# Altium footprint library TLC2262_SOIC8.PcbLib: 2 footprints
Each footprint in its own frame and in the unit in brackets; x right, y up, seen from the top. Pads: shape width x height; smd on the part's side, far side on the other; paste and mask are expansions set on the pad; w line width, h text height; cw(c..) or ccw(c..) is an arc to the next point about the centre after c.
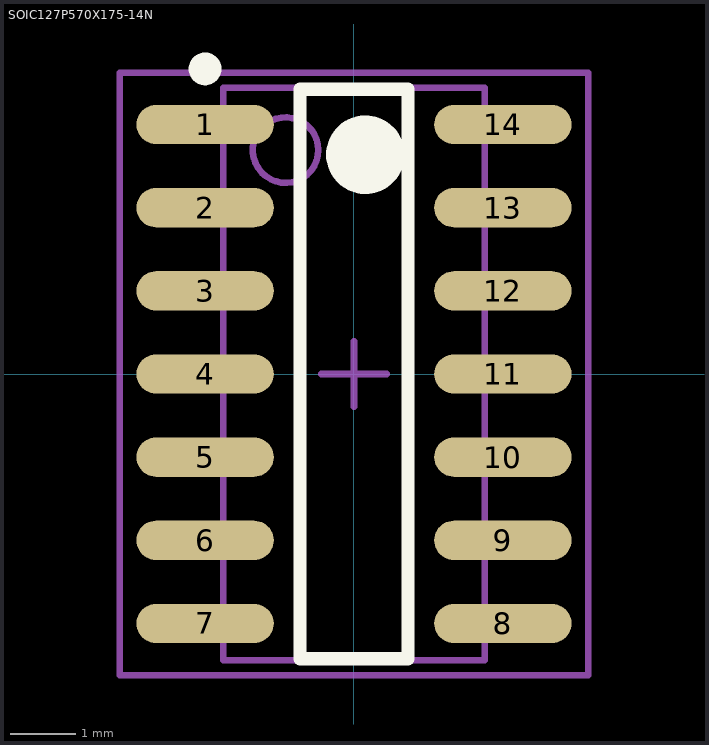
[diagram p0: the footprints below, top view; thin cyan lines are the x and y axes]

## PCBComponent_1 - duplicate [mm]

## SOIC127P570X175-14N [mm] "SOIC, 14-Leads, Body 8.7x4.0mm (max), Pitch 1.27mm, IPC Medium Density"
height 1.753
pads (14):
  oval 2.1x0.6 smd: 1(-2.275,3.81) 2(-2.275,2.54) 3(-2.275,1.27) 4(-2.275,0) 5(-2.275,-1.27) 6(-2.275,-2.54) 7(-2.275,-3.81) 8(2.275,-3.81) 9(2.275,-2.54) 10(2.275,-1.27) 11(2.275,0) 12(2.275,1.27) 13(2.275,2.54) 14(2.275,3.81)
Top Overlay:
  circle w0.6: c0.175,3.35 r0.3
  circle w0.25: c-2.275,4.66 r0.125
  lines w0.2: -0.825,-4.35 0.825,-4.35 0.825,4.35 -0.825,4.35 -0.825,-4.35
Mechanical 13:
  circle w0.1: c-1.045,3.42 r0.5
  lines w0.1: -1.995,-4.37 1.995,-4.37 1.995,4.37 -1.995,4.37 -1.995,-4.37
Mechanical 15:
  lines w0.1: -0.5,0 0.5,0 ; 0,-0.5 0,0.5 ; -3.575,-4.6 3.575,-4.6 3.575,4.6 -3.575,4.6 -3.575,-4.6
3D body: height 1.75, standoff 0.1, extent -1.995,-4.37 1.995,4.37